# Altium footprint library LED.PcbLib: 1 footprints
Each footprint in its own frame and in the unit in brackets; x right, y up, seen from the top. Pads: shape width x height; smd on the part's side, far side on the other; paste and mask are expansions set on the pad; w line width, h text height; cw(c..) or ccw(c..) is an arc to the next point about the centre after c.
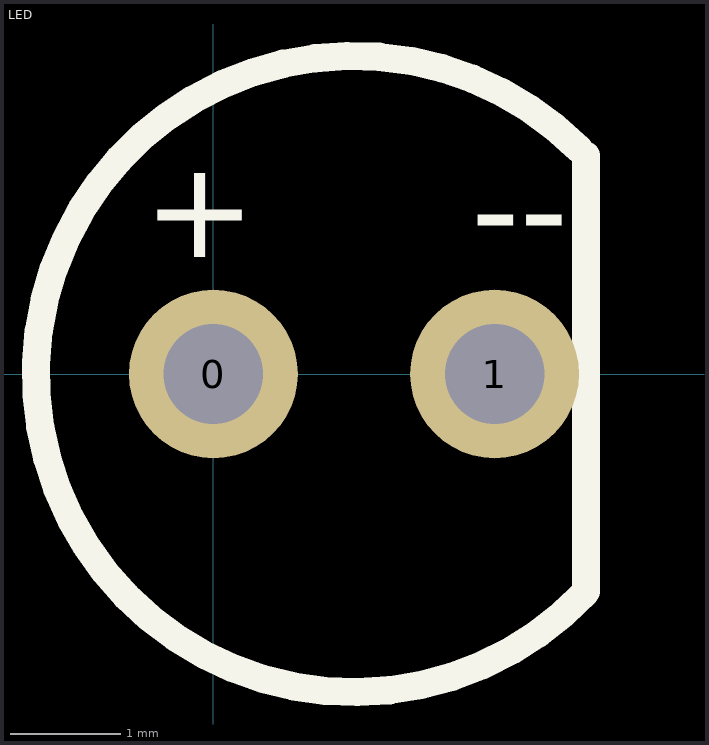
[diagram p0: the footprint, top view; thin cyan lines are the x and y axes]

## LED [mil]
pads (2):
  round 60 hole 35.43: 0(0,0) 1(100,0)
Top Overlay:
  lines w10: 130,80 ccw(c50,0) 132.54,-77.38 132.54,77.62
  text "+     --" at -25,30 h60
3D body: height 397.64, standoff 3.94, extent -67.64,-120 167.64,115.75